# Altium footprint library PCB - RF SHIELD - MASACH MS243-10F.PcbLib: 1 footprints
Each footprint in its own frame and in the unit in brackets; x right, y up, seen from the top. Pads: shape width x height; smd on the part's side, far side on the other; paste and mask are expansions set on the pad; w line width, h text height; cw(c..) or ccw(c..) is an arc to the next point about the centre after c.
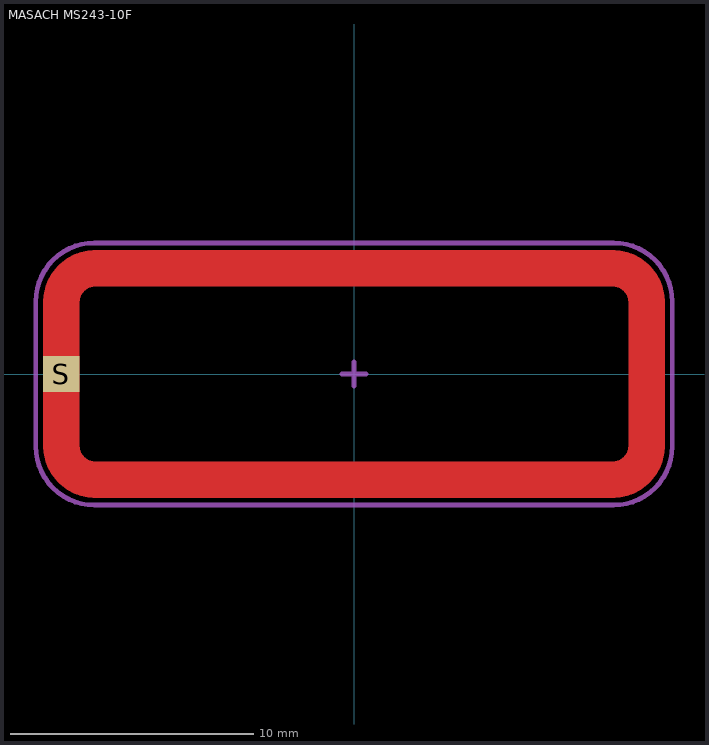
[diagram p0: the footprint, top view; thin cyan lines are the x and y axes]

## MASACH MS243-10F [mm] "24.3 x 8.9 x 3.8mm Two-piece Drawn-Seamless RF Shield / EMI Shield FRAME"
height 3.8
pads (1):
  rect 1.5x1.5 smd paste-2 mask+0: S(-12.05,0)
Top Layer:
  lines w1.5: -12.05,-2.953 ccw(c-10.653,-2.953) -10.653,-4.35 0,-4.35 10.653,-4.35 ccw(c10.653,-2.953) 12.05,-2.953 12.05,2.953 ccw(c10.653,2.953) 10.653,4.35 -10.653,4.35 ccw(c-10.653,2.953) -12.05,2.953 -12.05,-2.953
Top Paste:
  region: 1.3,-3.6 0.3,-3.6 0.3,-5.1 1.3,-5.1
  region: 3.3,-3.6 1.8,-3.6 1.8,-5.1 3.3,-5.1
  region: 5.3,-3.6 3.8,-3.6 3.8,-5.1 5.3,-5.1
  region: 7.3,-3.6 5.8,-3.6 5.8,-5.1 7.3,-5.1
  region: 9.3,-3.6 7.8,-3.6 7.8,-5.1 9.3,-5.1
  region: 1.3,5.1 0.3,5.1 0.3,3.6 1.3,3.6
  region: 3.3,5.1 1.8,5.1 1.8,3.6 3.3,3.6
  region: 5.3,5.1 3.8,5.1 3.8,3.6 5.3,3.6
  region: 7.3,5.1 5.8,5.1 5.8,3.6 7.3,3.6
  region: 9.3,5.1 7.8,5.1 7.8,3.6 9.3,3.6
  region: 12.8,1.4 11.3,1.4 11.3,-1.4 12.8,-1.4
  rectangle: -1.3,-5.1 -0.3,-3.6
  rectangle: -3.3,-5.1 -1.8,-3.6
  rectangle: -5.3,-5.1 -3.8,-3.6
  rectangle: -7.3,-5.1 -5.8,-3.6
  rectangle: -9.3,-5.1 -7.8,-3.6
  rectangle: -1.3,3.6 -0.3,5.1
  rectangle: -3.3,3.6 -1.8,5.1
  rectangle: -5.3,3.6 -3.8,5.1
  rectangle: -7.3,3.6 -5.8,5.1
  rectangle: -9.3,3.6 -7.8,5.1
  rectangle: -12.8,-1.4 -11.3,1.4
Top Component Outline:
  lines w0.2: -12.1,-3.103 ccw(c-10.703,-3.103) -10.703,-4.5 0,-4.5 10.703,-4.5 ccw(c10.703,-3.103) 12.1,-3.103 12.1,3.103 ccw(c10.703,3.103) 10.703,4.5 -10.703,4.5 ccw(c-10.703,3.103) -12.1,3.103 -12.1,-3.103
Top Courtyard (Mech153):
  lines w0.2: -0.5,0 0.5,0 ; 0,-0.5 0,0.5 ; -13.1,-2.987 ccw(c-10.687,-2.987) -10.687,-5.4 10.687,-5.4 ccw(c10.687,-2.987) 13.1,-2.987 13.1,2.987 ccw(c10.687,2.987) 10.687,5.4 -10.687,5.4 ccw(c-10.687,2.987) -13.1,2.987 -13.1,2 -13.1,-2.987
3D body "Masach MS243-10F.step": height 3.8, standoff 0, extent -12.15,-4.45 12.15,4.45